# EAGLE library part MM5451 (library Custom Chips)
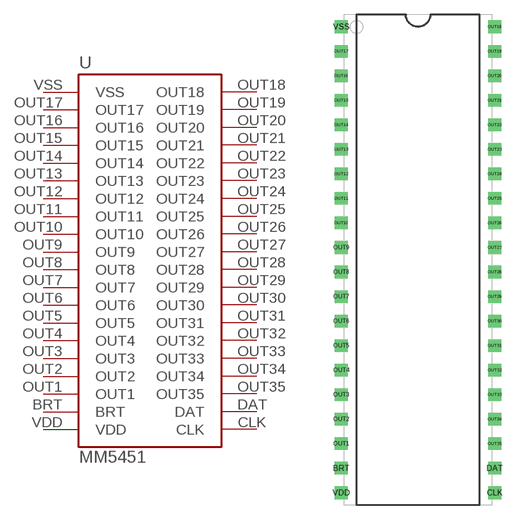
[diagram p0: symbol with the pads of 40-PIN-PLASTIC-DIP; footprint 40-PIN-PLASTIC-DIP]

Designator prefix -

## MM5451DIP  [40-PIN-PLASTIC-DIP]
BRT  BRT
CLK  CLK
DAT  DAT
OUT1  OUT1
OUT2  OUT2
OUT3  OUT3
OUT4  OUT4
OUT5  OUT5
OUT6  OUT6
OUT7  OUT7
OUT8  OUT8
OUT9  OUT9
OUT10  OUT10
OUT11  OUT11
OUT12  OUT12
OUT13  OUT13
OUT14  OUT14
OUT15  OUT15
OUT16  OUT16
OUT17  OUT17
OUT18  OUT18
OUT19  OUT19
OUT20  OUT20
OUT21  OUT21
OUT22  OUT22
OUT23  OUT23
OUT24  OUT24
OUT25  OUT25
OUT26  OUT26
OUT27  OUT27
OUT28  OUT28
OUT29  OUT29
OUT30  OUT30
OUT31  OUT31
OUT32  OUT32
OUT33  OUT33
OUT34  OUT34
OUT35  OUT35
VDD  VDD
VSS  VSS

## Footprint 40-PIN-PLASTIC-DIP (pad centres in mm)
drill 0.8 square: BRT -7.938,-21.59; CLK 7.938,-24.13; DAT 7.938,-21.59; OUT1 -7.938,-19.05; OUT2 -7.938,-16.51; OUT3 -7.938,-13.97; OUT4 -7.938,-11.43; OUT5 -7.938,-8.89; OUT6 -7.938,-6.35; OUT7 -7.938,-3.81; OUT8 -7.938,-1.27; OUT9 -7.938,1.27; OUT10 -7.938,3.81; OUT11 -7.938,6.35; OUT12 -7.938,8.89; OUT13 -7.938,11.43; OUT14 -7.938,13.97; OUT15 -7.938,16.51; OUT16 -7.938,19.05; OUT17 -7.938,21.59; OUT18 7.938,24.13; OUT19 7.938,21.59; OUT20 7.938,19.05; OUT21 7.938,16.51; OUT22 7.938,13.97; OUT23 7.938,11.43; OUT24 7.938,8.89; OUT25 7.938,6.35; OUT26 7.938,3.81; OUT27 7.938,1.27; OUT28 7.938,-1.27; OUT29 7.938,-3.81; OUT30 7.938,-6.35; OUT31 7.938,-8.89; OUT32 7.938,-11.43; OUT33 7.938,-13.97; OUT34 7.938,-16.51; OUT35 7.938,-19.05; VDD -7.938,-24.13; VSS -7.938,24.13